# Altium schematic symbol library Capacitors.SchLib: 2 symbols
Pins are listed as number, name and electrical type; pins without a type are passive.

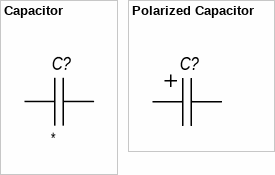
[diagram p0: symbols Capacitor to Polarized Capacitor]

## Capacitor
designator C?
Designer: Alexei Kazachkov; Published: 31.10.2021; Capacitance: *
pins: 1, 2

## Polarized Capacitor
designator C?  (value not drawn)
pins: 1, 2